# EAGLE library part PIC18F66K90 (library bender_head)
DATASHEET: http://ww1.microchip.com/downloads/en/DeviceDoc/39957d.pdf Por Nicolás Cifuentes.
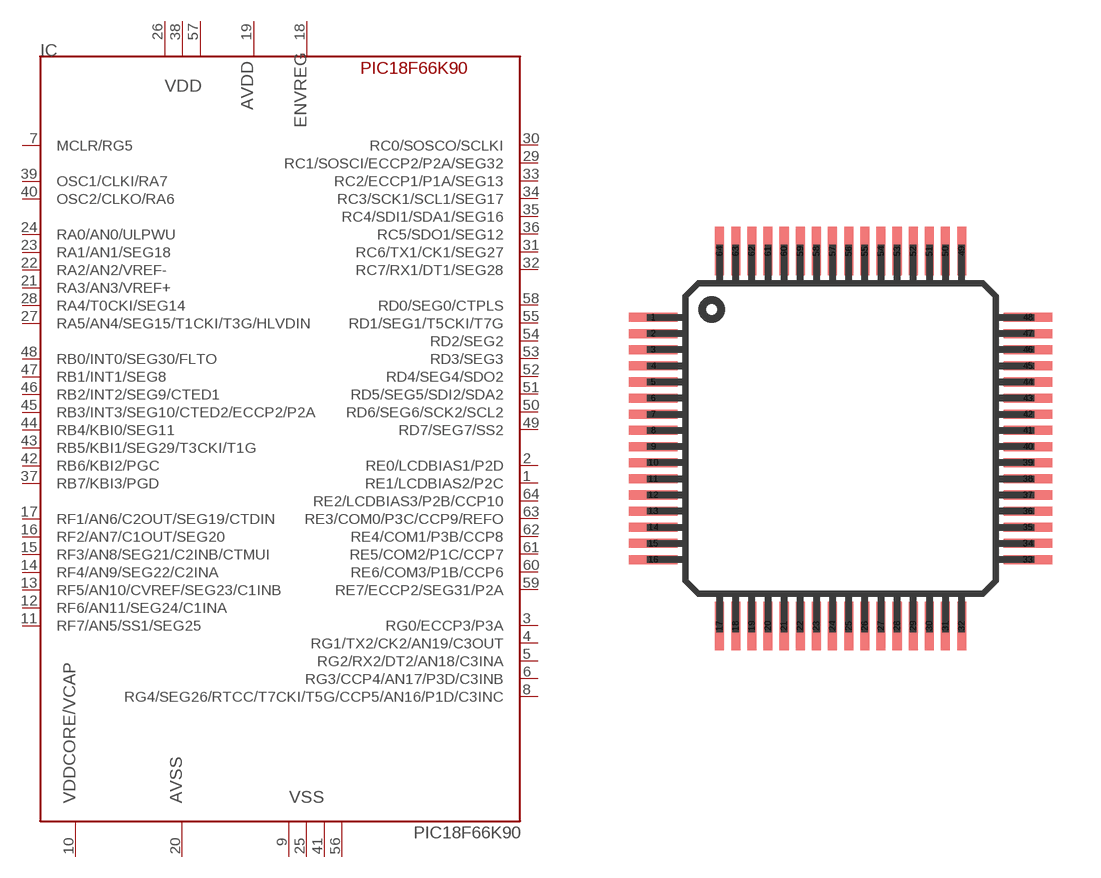
[diagram p0: symbol with the pads of TQFP64-10X10; footprint TQFP64-10X10]

Designator prefix IC

## PIC18F66K90  [TQFP64-10X10]
1  RE1/LCDBIAS2/P2C
2  RE0/LCDBIAS1/P2D
3  RG0/ECCP3/P3A
4  RG1/TX2/CK2/AN19/C3OUT
5  RG2/RX2/DT2/AN18/C3INA
6  RG3/CCP4/AN17/P3D/C3INB
7  MCLR/RG5  in
8  RG4/SEG26/RTCC/T7CKI/T5G/CCP5/AN16/P1D/C3INC
9  VSS  pwr
10  VDDCORE/VCAP  pwr
11  RF7/AN5/SS1/SEG25
12  RF6/AN11/SEG24/C1INA
13  RF5/AN10/CVREF/SEG23/C1INB
14  RF4/AN9/SEG22/C2INA
15  RF3/AN8/SEG21/C2INB/CTMUI
16  RF2/AN7/C1OUT/SEG20
17  RF1/AN6/C2OUT/SEG19/CTDIN
18  ENVREG  pwr
19  AVDD  pwr
20  AVSS  pwr
21  RA3/AN3/VREF+
22  RA2/AN2/VREF-
23  RA1/AN1/SEG18
24  RA0/AN0/ULPWU
25  VSS  pwr
26  VDD  pwr
27  RA5/AN4/SEG15/T1CKI/T3G/HLVDIN
28  RA4/T0CKI/SEG14
29  RC1/SOSCI/ECCP2/P2A/SEG32
30  RC0/SOSCO/SCLKI
31  RC6/TX1/CK1/SEG27
32  RC7/RX1/DT1/SEG28
33  RC2/ECCP1/P1A/SEG13
34  RC3/SCK1/SCL1/SEG17
35  RC4/SDI1/SDA1/SEG16
36  RC5/SDO1/SEG12
37  RB7/KBI3/PGD
38  VDD  pwr
39  OSC1/CLKI/RA7
40  OSC2/CLKO/RA6
41  VSS  pwr
42  RB6/KBI2/PGC
43  RB5/KBI1/SEG29/T3CKI/T1G
44  RB4/KBI0/SEG11
45  RB3/INT3/SEG10/CTED2/ECCP2/P2A
46  RB2/INT2/SEG9/CTED1
47  RB1/INT1/SEG8
48  RB0/INT0/SEG30/FLTO
49  RD7/SEG7/SS2
50  RD6/SEG6/SCK2/SCL2
51  RD5/SEG5/SDI2/SDA2
52  RD4/SEG4/SDO2
53  RD3/SEG3
54  RD2/SEG2
55  RD1/SEG1/T5CKI/T7G
56  VSS  pwr
57  VDD  pwr
58  RD0/SEG0/CTPLS
59  RE7/ECCP2/SEG31/P2A
60  RE6/COM3/P1B/CCP6
61  RE5/COM2/P1C/CCP7
62  RE4/COM1/P3B/CCP8
63  RE3/COM0/P3C/CCP9/REFO
64  RE2/LCDBIAS3/P2B/CCP10

## Footprint TQFP64-10X10 (pad centres in mm)
Thin Quad Flat Pack package type TQ
smd 1.5 x 0.28: 1 -5.8,3.75; 2 -5.8,3.25; 3 -5.8,2.75; 4 -5.8,2.25; 5 -5.8,1.75; 6 -5.8,1.25; 7 -5.8,0.75; 8 -5.8,0.25; 9 -5.8,-0.25; 10 -5.8,-0.75; 11 -5.8,-1.25; 12 -5.8,-1.75; 13 -5.8,-2.25; 14 -5.8,-2.75; 15 -5.8,-3.25; 16 -5.8,-3.75; 33 5.8,-3.75; 34 5.8,-3.25; 35 5.8,-2.75; 36 5.8,-2.25; 37 5.8,-1.75; 38 5.8,-1.25; 39 5.8,-0.75; 40 5.8,-0.25; 41 5.8,0.25; 42 5.8,0.75; 43 5.8,1.25; 44 5.8,1.75; 45 5.8,2.25; 46 5.8,2.75; 47 5.8,3.25; 48 5.8,3.75
smd 0.28 x 1.5: 17 -3.75,-5.8; 18 -3.25,-5.8; 19 -2.75,-5.8; 20 -2.25,-5.8; 21 -1.75,-5.8; 22 -1.25,-5.8; 23 -0.75,-5.8; 24 -0.25,-5.8; 25 0.25,-5.8; 26 0.75,-5.8; 27 1.25,-5.8; 28 1.75,-5.8; 29 2.25,-5.8; 30 2.75,-5.8; 31 3.25,-5.8; 32 3.75,-5.8; 49 3.75,5.8; 50 3.25,5.8; 51 2.75,5.8; 52 2.25,5.8; 53 1.75,5.8; 54 1.25,5.8; 55 0.75,5.8; 56 0.25,5.8; 57 -0.25,5.8; 58 -0.75,5.8; 59 -1.25,5.8; 60 -1.75,5.8; 61 -2.25,5.8; 62 -2.75,5.8; 63 -3.25,5.8; 64 -3.75,5.8